# Altium footprint library TO-18.PcbLib: 1 footprints
Each footprint in its own frame and in the unit in brackets; x right, y up, seen from the top. Pads: shape width x height; smd on the part's side, far side on the other; paste and mask are expansions set on the pad; w line width, h text height; cw(c..) or ccw(c..) is an arc to the next point about the centre after c.
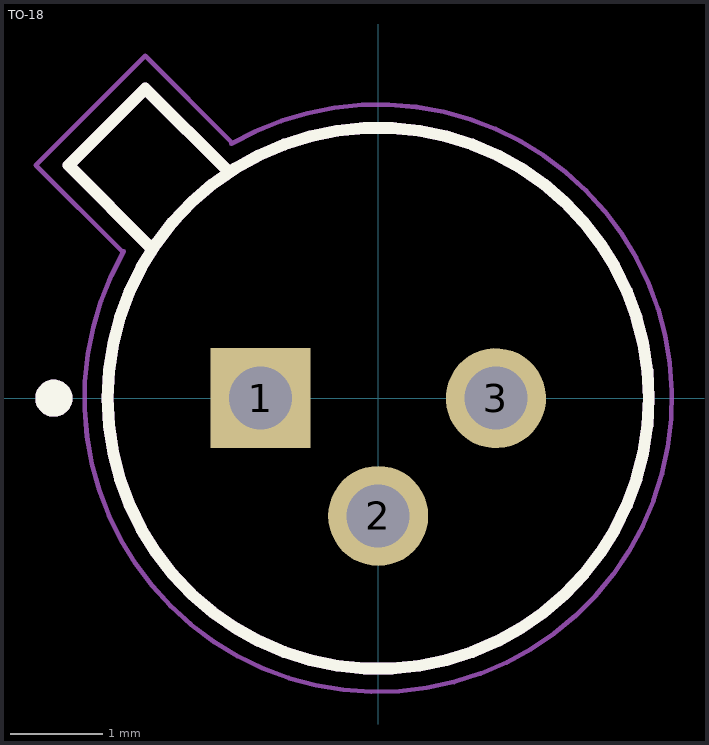
[diagram p0: the footprint, top view; thin cyan lines are the x and y axes]

## TO-18 [mm]
height 5.33
pads (3):
  rect 1.08x1.08 / inner round 1.08 / far side rect 1.08x1.08 hole 0.68: 1(-1.27,0)
  round 1.08 hole 0.68: 2(0,-1.27) 3(1.27,0)
Top Overlay:
  circle w0.2: c-3.5,0 r0.1
  circle w0.127: c0,0 r2.92
  lines w0.127: -2.437,1.61 -3.341,2.514 -2.514,3.341 -1.61,2.437
Mechanical 13:
  circle w0.2: c-3.5,0 r0.1
  circle w0.127: c0,0 r2.92
  lines w0.127: -2.437,1.61 -3.341,2.514 -2.514,3.341 -1.61,2.437
Mechanical 15:
  lines w0.05: -2.753,1.572 -3.695,2.514 -2.514,3.695 -1.572,2.753 ; -2.745,1.586 ccw(c0.001,0) -2.241,-2.242 ccw(c0,0) 2.242,2.242 ccw(c0,-0.001) -1.586,2.745
3D body "step_temp.STEP": height 10.38, standoff -7.62, extent -3.268,-2.9 2.9,3.268